# Altium footprint library mb1246b.brd.PcbLib: 73 footprints (part 2 of 6)
Each footprint in its own frame and in the unit in brackets; x right, y up, seen from the top. Pads: shape width x height; smd on the part's side, far side on the other; paste and mask are expansions set on the pad; w line width, h text height; cw(c..) or ccw(c..) is an arc to the next point about the centre after c.
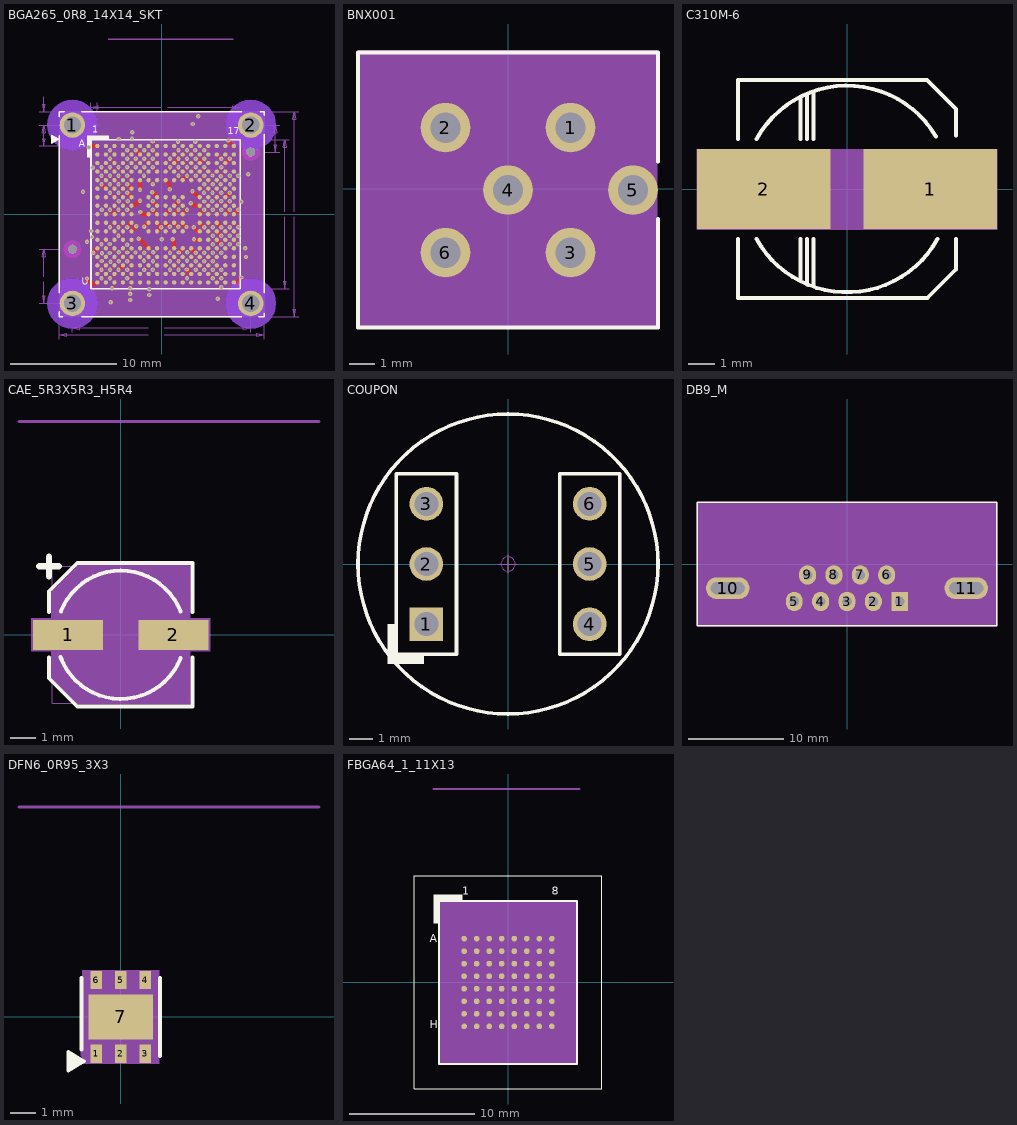
[diagram p1: the footprints below, top view; thin cyan lines are the x and y axes]

## BGA265_0R8_14X14_SKT [mil] "BGA265_0R8_14X14_SKT"
pads (271):
  round 94 hole 64: 1(-329.09,329.23) 2(329.37,329.23) 3(-329.09,-329.23) 4(329.37,-329.23)
  round 16 smd: A1(-236.97,251.97) A2(-205.47,251.97) A3(-173.98,251.97) A4(-142.48,251.97) A5(-110.98,251.97) A6(-79.49,251.97) A7(-47.99,251.97) A8(-16.5,251.97) A9(15,251.97) A10(46.5,251.97) A11(77.99,251.97) A12(109.49,251.97) A13(140.98,251.97) A14(172.48,251.97) A15(203.98,251.97) A16(235.47,251.97) A17(266.97,251.97) B1(-236.97,220.47) B2(-205.47,220.47) B3(-173.98,220.47) B4(-142.48,220.47) B5(-110.98,220.47) B6(-79.49,220.47) B7(-47.99,220.47) B8(-16.5,220.47) B9(15,220.47) B10(46.5,220.47) B11(77.99,220.47) B12(109.49,220.47) B13(140.98,220.47) B14(172.48,220.47) B15(203.98,220.47) B16(235.47,220.47) B17(266.97,220.47) C1(-236.97,188.98) C2(-205.47,188.98) C3(-173.98,188.98) C4(-142.48,188.98) C5(-110.98,188.98) C6(-79.49,188.98) C7(-47.99,188.98) C8(-16.5,188.98) C9(15,188.98) C10(46.5,188.98) C11(77.99,188.98) C12(109.49,188.98) C13(140.98,188.98) C14(172.48,188.98) C15(203.98,188.98) C16(235.47,188.98) C17(266.97,188.98) D1(-236.97,157.48) D2(-205.47,157.48) D3(-173.98,157.48) D4(-142.48,157.48) D5(-110.98,157.48) D6(-79.49,157.48) D7(-47.99,157.48) D8(-16.5,157.48) D9(15,157.48) D10(46.5,157.48) D11(77.99,157.48) D12(109.49,157.48) D13(140.98,157.48) D14(172.48,157.48) D15(203.98,157.48) D16(235.47,157.48) D17(266.97,157.48) E1(-236.97,125.98) E2(-205.47,125.98) E3(-173.98,125.98) E4(-142.48,125.98) E5(-110.98,125.98) E6(-79.49,125.98) E7(-47.99,125.98) E8(-16.5,125.98) E9(15,125.98) E10(46.5,125.98) E11(77.99,125.98) E12(109.49,125.98) E13(140.98,125.98) E14(172.48,125.98) E15(203.98,125.98) E16(235.47,125.98) E17(266.97,125.98) F1(-236.97,94.49) F2(-205.47,94.49) F3(-173.98,94.49) F4(-142.48,94.49) F5(-110.98,94.49) F13(140.98,94.49) F14(172.48,94.49) F15(203.98,94.49) F16(235.47,94.49) F17(266.97,94.49) G1(-236.97,62.99) G2(-205.47,62.99) G3(-173.98,62.99) G4(-142.48,62.99) G5(-110.98,62.99) G7(-47.99,62.99) G8(-16.5,62.99) G9(15,62.99) G10(46.5,62.99) G11(77.99,62.99) G13(140.98,62.99) G14(172.48,62.99) G15(203.98,62.99) G16(235.47,62.99) G17(266.97,62.99) H1(-236.97,31.5) H2(-205.47,31.5) H3(-173.98,31.5) H4(-142.48,31.5) H5(-110.98,31.5) H7(-47.99,31.5) H8(-16.5,31.5) H9(15,31.5) H10(46.5,31.5) H11(77.99,31.5) H13(140.98,31.5) H14(172.48,31.5) H15(203.98,31.5) H16(235.47,31.5) H17(266.97,31.5) J1(-236.97,0) J2(-205.47,0) J3(-173.98,0) J4(-142.48,0) J5(-110.98,0) J7(-47.99,0) J8(-16.5,0) J9(15,0) J10(46.5,0) J11(77.99,0) J13(140.98,0) J14(172.48,0) J15(203.98,0) J16(235.47,0) J17(266.97,0) K1(-236.97,-31.5) K2(-205.47,-31.5) K3(-173.98,-31.5) K4(-142.48,-31.5) K5(-110.98,-31.5) K7(-47.99,-31.5) K8(-16.5,-31.5) K9(15,-31.5) K10(46.5,-31.5) K11(77.99,-31.5) K13(140.98,-31.5) K14(172.48,-31.5) K15(203.98,-31.5) K16(235.47,-31.5) K17(266.97,-31.5) L1(-236.97,-62.99) L2(-205.47,-62.99) L3(-173.98,-62.99) L4(-142.48,-62.99) L5(-110.98,-62.99) L7(-47.99,-62.99) L8(-16.5,-62.99) L9(15,-62.99) L10(46.5,-62.99) L11(77.99,-62.99) L13(140.98,-62.99) L14(172.48,-62.99) L15(203.98,-62.99) L16(235.47,-62.99) L17(266.97,-62.99) M1(-236.97,-94.49) M2(-205.47,-94.49) M3(-173.98,-94.49) M4(-142.48,-94.49) M5(-110.98,-94.49) M13(140.98,-94.49) M14(172.48,-94.49) M15(203.98,-94.49) M16(235.47,-94.49) M17(266.97,-94.49) N1(-236.97,-125.98) N2(-205.47,-125.98) N3(-173.98,-125.98) N4(-142.48,-125.98) N5(-110.98,-125.98) N6(-79.49,-125.98) N7(-47.99,-125.98) N8(-16.5,-125.98) N9(15,-125.98) N10(46.5,-125.98) N11(77.99,-125.98) N12(109.49,-125.98) N13(140.98,-125.98) N14(172.48,-125.98) N15(203.98,-125.98) N16(235.47,-125.98) N17(266.97,-125.98) P1(-236.97,-157.48) P2(-205.47,-157.48) P3(-173.98,-157.48) P4(-142.48,-157.48) P5(-110.98,-157.48) P6(-79.49,-157.48) P7(-47.99,-157.48) P8(-16.5,-157.48) P9(15,-157.48) P10(46.5,-157.48) P11(77.99,-157.48) P12(109.49,-157.48) P13(140.98,-157.48) P14(172.48,-157.48) P15(203.98,-157.48) P16(235.47,-157.48) P17(266.97,-157.48) R1(-236.97,-188.98) R2(-205.47,-188.98) R3(-173.98,-188.98) R4(-142.48,-188.98) R5(-110.98,-188.98) R6(-79.49,-188.98) R7(-47.99,-188.98) R8(-16.5,-188.98) R9(15,-188.98) R10(46.5,-188.98) R11(77.99,-188.98) R12(109.49,-188.98) R13(140.98,-188.98) R14(172.48,-188.98) R15(203.98,-188.98) R16(235.47,-188.98) R17(266.97,-188.98) T1(-236.97,-220.47) T2(-205.47,-220.47) T3(-173.98,-220.47) T4(-142.48,-220.47) T5(-110.98,-220.47) T6(-79.49,-220.47) T7(-47.99,-220.47) T8(-16.5,-220.47) T9(15,-220.47) T10(46.5,-220.47) T11(77.99,-220.47) T12(109.49,-220.47) T13(140.98,-220.47) T14(172.48,-220.47) T15(203.98,-220.47) T16(235.47,-220.47) T17(266.97,-220.47) U1(-236.97,-251.97) U2(-205.47,-251.97) U3(-173.98,-251.97) U4(-142.48,-251.97) U5(-110.98,-251.97) U6(-79.49,-251.97) U7(-47.99,-251.97) U8(-16.5,-251.97) U9(15,-251.97) U10(46.5,-251.97) U11(77.99,-251.97) U12(109.49,-251.97) U13(140.98,-251.97) U14(172.48,-251.97) U15(203.98,-251.97) U16(235.47,-251.97) U17(266.97,-251.97)
  round 33.46 hole 33.46 unplated: ""(-329.09,-129.23) ""(329.37,229.23)
via 136,362 diameter 16 hole 8
via 115.5,333 diameter 16 hole 8
via -108,303 diameter 16 hole 8
via -109,279 diameter 16 hole 8
via -157.74,277.74 diameter 16 hole 8
via 246.01,272.51 diameter 16 hole 8
via -32.77,268.24 diameter 16 hole 8
via 61,268 diameter 16 hole 8
via 124,268 diameter 16 hole 8
via -269,247 diameter 16 hole 8
via -190.25,236.74 diameter 16 hole 8
via -127.25,236.74 diameter 16 hole 8
via -95.76,236.74 diameter 16 hole 8
via -64.26,236.74 diameter 16 hole 8
via -32.77,236.74 diameter 16 hole 8
via 62.77,236.74 diameter 16 hole 8
via 94.26,236.74 diameter 16 hole 8
via 157.25,236.74 diameter 16 hole 8
via 124,236 diameter 16 hole 8
via -190.25,205.25 diameter 16 hole 8
via -127.25,205.25 diameter 16 hole 8
via -95.76,205.25 diameter 16 hole 8
via -64.26,205.25 diameter 16 hole 8
via -32.77,205.25 diameter 16 hole 8
via 31.27,205.25 diameter 16 hole 8
via 62.77,205.25 diameter 16 hole 8
via 94.26,205.25 diameter 16 hole 8
via 125.76,205.25 diameter 16 hole 8
via 157.25,205.25 diameter 16 hole 8
via 251.74,205.25 diameter 16 hole 8
via 221,204.5 diameter 16 hole 8
via -221.74,173.75 diameter 16 hole 8
via -190.25,173.75 diameter 16 hole 8
via -158.75,173.75 diameter 16 hole 8
via -127.25,173.75 diameter 16 hole 8
via -95.76,173.75 diameter 16 hole 8
via -64.26,173.75 diameter 16 hole 8
via -32.77,173.75 diameter 16 hole 8
via 31.27,173.75 diameter 16 hole 8
via 62.77,173.75 diameter 16 hole 8
via 94.26,173.75 diameter 16 hole 8
via 125.76,173.75 diameter 16 hole 8
via 157.25,173.75 diameter 16 hole 8
via 220.25,173.75 diameter 16 hole 8
via -254,172 diameter 16 hole 8
via 320.17,148 diameter 16 hole 8
via 188,143 diameter 16 hole 8
via -65,142.5 diameter 16 hole 8
via -221.74,142.25 diameter 16 hole 8
via -190.25,142.25 diameter 16 hole 8
via -158.75,142.25 diameter 16 hole 8
via -127.25,142.25 diameter 16 hole 8
via 62.77,142.25 diameter 16 hole 8
via 94.26,142.25 diameter 16 hole 8
via 125.76,142.25 diameter 16 hole 8
via 157.25,142.25 diameter 16 hole 8
via 251.74,142.25 diameter 16 hole 8
via 283.24,142.25 diameter 16 hole 8
via 219,140 diameter 16 hole 8
via -33,111 diameter 16 hole 8
via 218.96,111 diameter 16 hole 8
via -221.74,110.76 diameter 16 hole 8
via -190.25,110.76 diameter 16 hole 8
via -158.75,110.76 diameter 16 hole 8
via -127.25,110.76 diameter 16 hole 8
via 157.25,110.76 diameter 16 hole 8
via 252.62,110.34 diameter 16 hole 8
via 188.75,110.25 diameter 16 hole 8
via 30,92 diameter 16 hole 8
via -79.49,90 diameter 16 hole 8
via 114.25,85 diameter 16 hole 8
via -290,83 diameter 16 hole 8
via -33.77,81.26 diameter 16 hole 8
via -190.25,79.26 diameter 16 hole 8
via -158.75,79.26 diameter 16 hole 8
via -127.25,79.26 diameter 16 hole 8
via 188,79.26 diameter 16 hole 8
via 220.25,79.26 diameter 16 hole 8
via 251.74,79.26 diameter 16 hole 8
via 157,79 diameter 16 hole 8
via -79.35,50 diameter 16 hole 8
via -125,48 diameter 16 hole 8
via 187.1,47.9 diameter 16 hole 8
via -32.77,47.77 diameter 16 hole 8
via 62.77,47.77 diameter 16 hole 8
via 220.25,47.77 diameter 16 hole 8
via 251.74,47.77 diameter 16 hole 8
via -157.85,47.63 diameter 16 hole 8
via 157.98,47 diameter 16 hole 8
via 294,46 diameter 16 hole 8
via 108,41 diameter 16 hole 8
via -221,17 diameter 16 hole 8
via -190.25,16.27 diameter 16 hole 8
via -158.75,16.27 diameter 16 hole 8
via -127.25,16.27 diameter 16 hole 8
via -32.77,16.27 diameter 16 hole 8
via 31.27,16.27 diameter 16 hole 8
via 62.77,16.27 diameter 16 hole 8
via 94.26,16.27 diameter 16 hole 8
via 157.25,16.27 diameter 16 hole 8
via 188.75,16.27 diameter 16 hole 8
via 220.25,16.27 diameter 16 hole 8
via 251.74,16.27 diameter 16 hole 8
via 283.24,16.27 diameter 16 hole 8
via -79,8 diameter 16 hole 8
via -93,-44 diameter 16 hole 8
via -64.26,-45.77 diameter 16 hole 8
via 30.27,-46.77 diameter 16 hole 8
via 61.77,-46.77 diameter 16 hole 8
via 92.08,-47.08 diameter 16 hole 8
via -190.25,-47.77 diameter 16 hole 8
via -158.75,-47.77 diameter 16 hole 8
via -127.25,-47.77 diameter 16 hole 8
via -1,-47.77 diameter 16 hole 8
via 157.25,-47.77 diameter 16 hole 8
via 188.75,-47.77 diameter 16 hole 8
via 220.25,-47.77 diameter 16 hole 8
via 251.74,-47.77 diameter 16 hole 8
via 283.24,-47.77 diameter 16 hole 8
via 119,-48 diameter 16 hole 8
via -260,-62 diameter 16 hole 8
via -158.75,-79.26 diameter 16 hole 8
via 188.75,-79.26 diameter 16 hole 8
via 220.25,-79.26 diameter 16 hole 8
via 251.74,-79.26 diameter 16 hole 8
via 283.24,-79.26 diameter 16 hole 8
via -257,-84 diameter 16 hole 8
via -84,-90 diameter 16 hole 8
via 1,-93 diameter 16 hole 8
via 41,-93 diameter 16 hole 8
via 120,-93 diameter 16 hole 8
via -275,-102 diameter 16 hole 8
via -191,-110 diameter 16 hole 8
via -221.74,-110.76 diameter 16 hole 8
via 188.75,-110.76 diameter 16 hole 8
via 220.25,-110.76 diameter 16 hole 8
via 251.74,-110.76 diameter 16 hole 8
via 283.24,-110.76 diameter 16 hole 8
via -127,-113 diameter 16 hole 8
via 309,-126 diameter 16 hole 8
via 95.26,-140.75 diameter 16 hole 8
via -158,-141 diameter 16 hole 8
via -31,-141 diameter 16 hole 8
via -96,-141.25 diameter 16 hole 8
via -127,-141.46 diameter 16 hole 8
via 63.81,-141.48 diameter 16 hole 8
via -251.63,-142 diameter 16 hole 8
via -64,-142 diameter 16 hole 8
via 31.27,-142.25 diameter 16 hole 8
via 125.76,-142.25 diameter 16 hole 8
via 157.25,-142.25 diameter 16 hole 8
via 188.75,-142.25 diameter 16 hole 8
via 220.25,-142.25 diameter 16 hole 8
via -191,-143 diameter 16 hole 8
via -220,-143.73 diameter 16 hole 8
via 312,-158 diameter 16 hole 8
via 94.26,-172.25 diameter 16 hole 8
via -64.64,-172.33 diameter 16 hole 8
via -221,-173 diameter 16 hole 8
via -127.25,-173.75 diameter 16 hole 8
via -31.73,-173.75 diameter 16 hole 8
via 31.27,-173.75 diameter 16 hole 8
via 62.77,-173.75 diameter 16 hole 8
via 125.76,-173.75 diameter 16 hole 8
via 157.25,-173.75 diameter 16 hole 8
via 188.75,-173.75 diameter 16 hole 8
via -158,-174 diameter 16 hole 8
via -188.66,-175.39 diameter 16 hole 8
via 93,-204 diameter 16 hole 8
via -221.74,-205.25 diameter 16 hole 8
via -190.25,-205.25 diameter 16 hole 8
via -158.75,-205.25 diameter 16 hole 8
via -127.25,-205.25 diameter 16 hole 8
via -64.26,-205.25 diameter 16 hole 8
via -32.77,-205.25 diameter 16 hole 8
via 31.27,-205.25 diameter 16 hole 8
via 62.77,-205.25 diameter 16 hole 8
via 125.76,-205.25 diameter 16 hole 8
via 157.25,-205.25 diameter 16 hole 8
via 188.75,-205.25 diameter 16 hole 8
via 220.25,-205.25 diameter 16 hole 8
via 294.02,-233.75 diameter 16 hole 8
via -221.74,-236.74 diameter 16 hole 8
via -190.25,-236.74 diameter 16 hole 8
via -127.25,-236.74 diameter 16 hole 8
via 94.26,-236.74 diameter 16 hole 8
via 188.75,-236.74 diameter 16 hole 8
via 220.25,-236.74 diameter 16 hole 8
via -275,-237.56 diameter 16 hole 8
via 221,-269.4 diameter 16 hole 8
via -182.93,-272.98 diameter 16 hole 8
via -116,-273 diameter 16 hole 8
via -45.5,-277 diameter 16 hole 8
via -116,-294 diameter 16 hole 8
via -45.5,-298 diameter 16 hole 8
via 207,-312 diameter 16 hole 8
via -116,-317 diameter 16 hole 8
via -188,-325 diameter 16 hole 8
Top Layer:
  lines w4: -236.97,-188.98 -236.97,-188.97 -221,-173 ; -221.74,-236.74 -205.47,-220.47 ; -221.74,-205.25 -205.47,-188.98 ; -221.74,-110.76 -205.47,-94.49 ; -221.74,142.25 -205.47,125.98 ; -221.74,173.75 -205.47,157.48 ; -191,-143 -173.98,-125.98 ; -190.25,-236.74 -173.98,-220.47 ; -190.25,-205.25 -173.98,-188.98 ; -190.25,-47.77 -173.98,-31.5 ; -190.25,79.26 -173.98,62.99 ; -190.25,110.76 -173.98,94.49 ; -190.25,142.25 -173.98,125.98 ; -190.25,173.75 -173.98,157.48 ; -190.25,205.25 -173.98,188.98 ; -182.93,-272.98 -173.98,-264.03 -173.98,-251.97 ; -173.98,31.5 -157.85,47.63 ; -158.75,-79.26 -142.48,-62.99 ; -158.75,-47.77 -142.48,-31.5 ; -158.75,16.27 -142.48,0 ; -158.75,79.26 -142.48,62.99 ; -158.75,110.76 -142.48,94.49 ; -158.75,142.25 -142.48,125.98 ; -158.75,173.75 -142.48,157.48 ; -158,-141 -142.48,-156.52 -142.48,-157.48 ; -142.48,-125.98 -127,-141.46 ; -142.48,31.5 -125.98,48 -125,48 ; -127.25,-236.74 -110.98,-220.47 ; -127.25,-205.25 -110.98,-188.98 ; -127.25,-173.75 -110.98,-157.48 ; -127.25,16.27 -110.98,0 ; -127.25,142.25 -110.98,125.98 ; -127.25,236.74 -110.98,220.47 ; -116,-273 -115,-273 -116,-272 -116,-256.99 -110.98,-251.97 ; -110.98,-125.98 -96,-140.96 -96,-141.25 ; -95.76,205.25 -79.49,188.98 ; -79.49,-157.48 -65,-171.97 -64.64,-171.97 -64.64,-172.33 ; -79.49,-125.98 -64,-141.47 -64,-142 ; -64.26,-205.25 -47.99,-188.98 ; -64.26,205.25 -47.99,188.98 ; -64.26,236.74 -47.99,220.47 ; -47.99,-157.48 -31.51,-141 -31,-141 ; -47.99,125.98 -33.01,111 ; -32.77,173.75 -16.5,157.48 ; -32.77,205.25 -16.5,188.98 ; -32.77,236.74 -16.5,220.47 ; -32.77,268.24 -16.5,251.97 ; 15,-188.98 31.27,-205.25 ; 15,-157.48 31.27,-173.75 ; 15,-125.98 31.27,-142.25 ; 15,157.48 31.27,173.75 ; 15,188.98 31.27,205.25 ; 46.5,-188.98 62.77,-205.25 ; 46.5,-157.48 62.77,-173.75 ; 46.5,125.98 62.77,142.25 ; 46.5,157.48 62.77,173.75 ; 46.5,220.47 62.77,236.74 ; 77.99,-220.47 94.26,-236.74 ; 77.99,157.48 94.26,173.75 ; 77.99,188.98 94.26,205.25 ; 77.99,220.47 94.26,236.74 ; 109.49,-188.98 125.76,-205.25 ; 109.49,-157.48 125.76,-173.75 ; 109.49,125.98 125.76,142.25 ; 109.49,157.48 125.76,173.75 ; 109.49,188.98 125.76,205.25 ; 109.49,220.47 124,234.98 124,236 ; 140.98,-188.98 157.25,-205.25 ; 140.98,-157.48 157.25,-173.75 ; 140.98,-125.98 157.25,-142.25 ; 140.98,94.49 157.25,110.76 ; 140.98,125.98 157.25,142.25 ; 140.98,157.48 157.25,173.75 ; 157,79 172.48,94.48 ; 157.98,47 172.48,32.5 172.48,31.5 ; 172.48,-220.47 188.75,-236.74 ; 172.48,-188.98 188.75,-205.25 ; 172.48,-157.48 188.75,-173.75 ; 172.48,-125.98 188.75,-142.25 ; 172.48,-94.49 188.75,-110.76 ; 172.48,-62.99 188.75,-79.26 ; 172.48,-31.5 188.75,-47.77 ; 172.48,0 188.75,16.27 ; 172.48,125.98 173.02,125.98 188.75,110.25 ; 172.48,157.48 186.96,143 188,143 ; 188,79.26 188,80 189.49,80 203.98,94.49 ; 203.98,-220.47 220.25,-236.74 ; 203.98,-188.98 220.25,-205.25 ; 203.98,-125.98 220.25,-142.25 ; 203.98,0 220.25,16.27 ; 203.98,31.5 220.25,47.77 ; 203.98,125.98 218.96,111 ; 203.98,157.48 220.25,173.75 ; 219,140 235.47,156.47 235.47,157.48 ; 235.47,-94.49 251.74,-110.76 ; 235.47,-62.99 251.74,-79.26 ; 235.47,-31.5 251.74,-47.77 ; 266.97,-94.49 283.24,-110.76 ; 266.97,-62.99 283.24,-79.26 ; 266.97,-31.5 283.24,-47.77 ; -33.01,111 -33,111 ; 172.48,94.48 172.48,94.49
  lines w5: 203.98,62.99 220.25,79.26 ; 203.98,220.47 204.53,220.47 221,204 221,204.5 ; 235.47,31.5 251.74,47.77
  lines w15: -275,-242.56 -261.32,-256.24 -260.76,-256.24 -258.71,-258.29 -243.29,-258.29 -236.97,-251.97 ; -269,247 -264.03,251.97 -236.97,251.97 ; -251.63,-142 -250,-140.37 -250,-139.01 -236.97,-125.98 ; -221.74,110.76 -205.47,94.49 ; -190.25,16.27 -173.98,0 ; -158.75,-205.25 -142.48,-188.98 ; -127.25,-47.77 -110.98,-31.5 ; -127.25,79.26 -110.98,62.99 ; -127.25,110.76 -110.98,94.49 ; -110.98,31.5 -99.03,31.5 -80.53,50 -79.35,50 ; -95.76,236.74 -79.49,220.47 ; -93,-44 -92,-44 -110.98,-62.98 ; -84,-90 -48.02,-125.98 ; -79.49,90 -79.49,125.98 ; -79,8 -77.99,8 -69.99,0 -47.99,0 ; -64.26,-45.77 -49.99,-31.5 -47.99,-31.5 ; -33.77,81.26 -31.26,81.26 -16.5,66.5 -16.5,62.99 ; -32.77,16.27 -16.5,0 ; -32.77,47.77 -16.5,31.5 ; -16.5,-62.5 -1.77,-47.77 -1,-47.77 -2.77,-46 -2.77,-45.23 -16.5,-31.5 ; 15,-31.5 30.27,-46.77 ; 15,0 31.27,16.27 ; 15,125.98 29,111.98 29,93 30,92 ; 41,-93 46.5,-98.5 46.5,-125.98 ; 46.5,-31.5 61.77,-46.77 ; 46.5,0 62.77,16.27 ; 46.5,31.5 62.77,47.77 ; 46.5,188.98 62.77,205.25 ; 63.81,-141.48 63.81,-141.19 77.99,-127.01 77.99,-125.98 ; 77.99,-31.5 77.99,-33.99 91.08,-47.08 92.08,-47.08 ; 77.99,0 94.26,16.27 ; 77.99,125.98 77.99,126.98 93.26,142.25 94.26,142.25 ; 108,41 117.5,31.5 140.98,31.5 ; 109.49,-220.47 93.02,-204 ; 109.49,-125.98 125.76,-142.25 ; 114.25,85 114.25,84.63 135.89,62.99 140.98,62.99 ; 119,-48 133.99,-62.99 140.98,-62.99 ; 120,-93 121.49,-94.49 140.98,-94.49 ; 140.98,-31.5 157.25,-47.77 ; 140.98,0 157.25,16.27 ; 140.98,188.98 157.25,205.25 ; 203.98,-94.49 220.25,-110.76 ; 203.98,-62.99 220.25,-79.26 ; 203.98,-31.5 220.25,-47.77 ; 235.47,0 251.74,16.27 ; 235.47,62.99 251.74,79.26 ; 235.47,188.98 251.74,205.25 ; 246.01,272.51 246.52,272 246.94,272 266.97,251.97 ; 266.97,-251.97 280.03,-251.97 294.02,-237.98 294.02,-233.75 ; 266.97,0 283.24,16.27 ; -110.98,-62.99 -110.98,-62.98 ; -48.02,-125.98 -47.99,-125.98 ; 93,-204 93.02,-204
Bottom Layer keep-out:
  region: -329.09,-236.26 -347.23,-238.05 -364.67,-243.34 -380.75,-251.93 -394.83,-263.49 -406.4,-277.58 -414.99,-293.65 -420.28,-311.09 -422.06,-329.23 -420.28,-347.37 -414.99,-364.81 -409.26,-375.52 -406.4,-380.88 -394.83,-394.97 -380.75,-406.53 -364.67,-415.13 -347.23,-420.42 -329.09,-422.2 -310.96,-420.42 -293.52,-415.13 -277.44,-406.53 -263.35,-394.97 -251.79,-380.88 -248.92,-375.52 -243.2,-364.81 -237.91,-347.37 -236.12,-329.23 -237.91,-311.09 -243.2,-293.65 -251.79,-277.58 -263.35,-263.49 -277.44,-251.93 -293.52,-243.34 -310.96,-238.05
  region: 329.37,-236.26 311.23,-238.05 293.79,-243.34 277.72,-251.93 263.63,-263.49 252.07,-277.58 243.48,-293.65 238.19,-311.09 236.4,-329.23 238.19,-347.37 243.48,-364.81 249.2,-375.52 252.07,-380.88 263.63,-394.97 277.72,-406.53 293.79,-415.13 311.23,-420.42 329.37,-422.2 347.51,-420.42 364.95,-415.13 381.02,-406.53 395.11,-394.97 406.67,-380.88 409.54,-375.52 415.26,-364.81 420.55,-347.37 422.34,-329.23 420.55,-311.09 415.26,-293.65 406.67,-277.58 395.11,-263.49 381.02,-251.93 364.95,-243.34 347.51,-238.05
  region: 329.37,422.2 311.23,420.41 293.79,415.12 277.72,406.53 263.63,394.97 252.07,380.88 243.48,364.81 238.19,347.37 236.4,329.23 238.19,311.1 243.48,293.66 249.2,282.95 252.07,277.58 263.63,263.5 277.72,251.93 293.79,243.34 311.23,238.05 329.37,236.27 347.51,238.05 364.95,243.34 381.02,251.93 395.11,263.5 406.67,277.58 409.54,282.95 415.26,293.66 420.55,311.1 422.34,329.23 420.55,347.37 415.26,364.81 406.67,380.88 395.11,394.97 381.02,406.53 364.95,415.12 347.51,420.41
  region: -329.09,422.21 -347.23,420.42 -364.67,415.13 -380.75,406.54 -394.84,394.98 -406.4,380.89 -414.99,364.81 -420.28,347.37 -422.07,329.23 -420.28,311.09 -414.99,293.65 -409.27,282.94 -406.4,277.58 -394.84,263.49 -380.75,251.93 -364.67,243.33 -347.23,238.04 -329.09,236.26 -310.96,238.04 -293.51,243.33 -277.44,251.93 -263.35,263.49 -251.79,277.58 -248.92,282.94 -243.2,293.65 -237.91,311.09 -236.12,329.23 -237.91,347.37 -243.2,364.81 -251.79,380.89 -263.35,394.98 -277.44,406.54 -293.51,415.13 -310.96,420.42
Top Overlay:
  dashed: -195,275 -195,290 -275,290 -275,210 -260,210 -260,275
  lines w5: -391.5,278 -391.5,273 -385.5,277 -394.5,283 -394.5,272 -397.5,270 -397.5,285 -401.5,287 -401.5,267 -405.5,267 -405.5,262 ; -405.5,262 -380.5,277 -405.5,292 -405.5,262
  lines w6: -378.31,-360 -378.31,-378.44 -365,-378.44 ; -378.31,-290 -378.31,290 ; -378.31,360 -378.31,378.44 -360,378.44 ; -295,-378.44 295,-378.44 ; -295,378.44 295,378.44 ; 360,-378.44 378.58,-378.44 378.58,-365 ; 365,378.44 378.58,378.44 378.58,365 ; 378.58,-290 378.58,295 ; -260.59,-275.59 -260.59,275.59 290.59,275.59 290.59,-275.59 -260.59,-275.59
  text "17" at 245,295 h25
  text "1" at -255,300 h25
  text "U" at -295,-260 h25
  text "A" at -305,250 h25
  text ".Designator" at 432,-247 h35
Top Courtyard:
  dashed: -260,-275 290,-275 290,275 -260,275
Top 3D Body:
  region: -380,-380 380,-380 380,380 -380,380
Top Component Center:
  circle w1: c15,0 r11.81
  lines w1: -0.75,0 30.75,0 ; 15,-15.75 15,15.75
Multi-Layer keep-out:
  region: 329.37,261 321.15,259.92 313.49,256.75 306.91,251.7 301.86,245.12 298.68,237.45 297.6,229.23 298.68,221.01 301.86,213.35 306.91,206.77 313.49,201.72 321.15,198.55 329.37,197.46 337.59,198.55 345.25,201.72 351.83,206.77 356.88,213.35 360.06,221.01 361.14,229.23 360.06,237.45 356.88,245.12 351.83,251.7 345.25,256.75 337.59,259.92
  region: -329.09,-97.47 -337.32,-98.55 -344.98,-101.72 -351.56,-106.77 -356.6,-113.35 -359.78,-121.01 -360.86,-129.23 -359.78,-137.45 -356.6,-145.11 -351.56,-151.69 -344.98,-156.74 -337.32,-159.91 -329.09,-161 -320.87,-159.91 -313.21,-156.74 -306.63,-151.69 -301.59,-145.11 -298.41,-137.45 -297.33,-129.23 -298.41,-121.01 -301.59,-113.35 -306.63,-106.77 -313.21,-101.72 -320.87,-98.55
Top Assembly:
  dashed: -260,275 -55,275 -260,70
  lines w5: -378.31,-378.44 -378.31,378.44 378.58,378.44 378.58,-378.44 -378.31,-378.44 ; -260.59,-275.59 -260.59,275.59 290.59,275.59 290.59,-275.59 -260.59,-275.59
  text "STM32H7" at 25,-639 h30
Mechanical42:
  text "M1" at -236.97,-100.79 h7.87
  text "L1" at -236.97,-69.29 h7.87
  text "E6" at -79.49,119.68 h7.87
  text "H5" at -110.98,25.2 h7.87
  text "G5" at -110.98,56.69 h7.87
  text "F5" at -110.98,88.19 h7.87
  text "M5" at -110.98,-100.79 h7.87
  text "L5" at -110.98,-69.29 h7.87
  text "K5" at -110.98,-37.8 h7.87
  text "N7" at -47.99,-132.28 h7.87
  text "J13" at 140.98,-9.44 h7.87
  text "H13" at 140.98,22.06 h7.87
  text "G13" at 140.98,53.55 h7.87
  text "E9" at 15,119.68 h7.87
  text "E11" at 77.99,116.54 h7.87
  text "L13" at 140.98,-72.43 h7.87
  text "K13" at 140.98,-40.94 h7.87
  text "N12" at 109.49,-135.42 h7.87
  text "N11" at 77.99,-135.42 h7.87
  text "N10" at 46.5,-135.42 h7.87
  text "N8" at -16.5,-132.28 h7.87
  text "M13" at 140.98,-103.93 h7.87
  text "P17" at 266.97,-166.92 h7.87
  text "E8" at -16.5,119.68 h7.87
  text "U3" at -173.98,-258.27 h7.87
  text "L3" at -173.98,-69.29 h7.87
  text "K1" at -236.97,-37.8 h7.87
  text "E3" at -173.98,119.68 h7.87
  text "B14" at 172.48,211.03 h7.87
  text "A14" at 172.48,242.53 h7.87
  text "C15" at 203.98,179.54 h7.87
  text "B7" at -47.99,214.17 h7.87
  text "T3" at -173.98,-226.77 h7.87
  text "P3" at -173.98,-163.78 h7.87
  text "L2" at -205.47,-69.29 h7.87
  text "E17" at 266.97,116.54 h7.87
  text "D14" at 172.48,148.04 h7.87
  text "U15" at 203.98,-261.41 h7.87
  text "T15" at 203.98,-229.91 h7.87
  text "D7" at -47.99,151.18 h7.87
  text "A8" at -16.5,245.67 h7.87
  text "B8" at -16.5,214.17 h7.87
  text "C8" at -16.5,182.68 h7.87
  text "H17" at 266.97,22.06 h7.87
  text "B10" at 46.5,211.03 h7.87
  text "M14" at 172.48,-103.93 h7.87
  text "N13" at 140.98,-135.42 h7.87
  text "N14" at 172.48,-135.42 h7.87
  text "R12" at 109.49,-198.42 h7.87
  text "U7" at -47.99,-258.27 h7.87
  text "U6" at -79.49,-258.27 h7.87
  text "T6" at -79.49,-226.77 h7.87
  text "P6" at -79.49,-163.78 h7.87
  text "N6" at -79.49,-132.28 h7.87
  text "P5" at -110.98,-163.78 h7.87
  text "H2" at -205.47,25.2 h7.87
  text "H1" at -236.97,25.2 h7.87
  text "E4" at -142.48,119.68 h7.87
  text "A3" at -173.98,245.67 h7.87
  text "A4" at -142.48,245.67 h7.87
  text "U13" at 140.98,-261.41 h7.87
  text "J1" at -236.97,-6.3 h7.87
  text "J2" at -205.47,-6.3 h7.87
  text "A9" at 15,245.67 h7.87
  text "F16" at 235.47,85.05 h7.87
  text "B4" at -142.48,214.17 h7.87
  text "C4" at -142.48,182.68 h7.87
  text "C11" at 77.99,179.54 h7.87
  text "A11" at 77.99,242.53 h7.87
  text "A12" at 109.49,242.53 h7.87
  text "C1" at -236.97,182.68 h7.87
  text "C2" at -205.47,182.68 h7.87
  text "U4" at -142.48,-258.27 h7.87
  text "T4" at -142.48,-226.77 h7.87
  text "M4" at -142.48,-100.79 h7.87
  text "M3" at -173.98,-100.79 h7.87
  text "M2" at -205.47,-100.79 h7.87
  text "D4" at -142.48,151.18 h7.87
  text "C5" at -110.98,182.68 h7.87
  text "B5" at -110.98,214.17 h7.87
  text "C6" at -79.49,182.68 h7.87
  text "E16" at 235.47,116.54 h7.87
  text "D15" at 203.98,148.04 h7.87
  text "E15" at 203.98,116.54 h7.87
  text "R5" at -110.98,-195.28 h7.87
  text "N3" at -173.98,-132.28 h7.87
  text "N4" at -142.48,-132.28 h7.87
  text "N5" at -110.98,-132.28 h7.87
  text "A5" at -110.98,245.67 h7.87
  text "U14" at 172.48,-261.41 h7.87
  text "T14" at 172.48,-229.91 h7.87
  text "P12" at 109.49,-166.92 h7.87
  text "P11" at 77.99,-166.92 h7.87
  text "T5" at -110.98,-226.77 h7.87
  text "U5" at -110.98,-258.27 h7.87
  text "U2" at -205.47,-258.27 h7.87
  text "A1" at -236.97,245.67 h7.87
  text "B2" at -205.47,214.17 h7.87
  text "P1" at -236.97,-163.78 h7.87
  text "N1" at -236.97,-132.28 h7.87
  text "U1" at -236.97,-258.27 h7.87
  text "B6" at -79.49,214.17 h7.87
  text "H8" at -16.5,25.2 h7.87
  text "J3" at -173.98,-6.3 h7.87
  text "J8" at -16.5,-6.3 h7.87
  text "G8" at -16.5,56.69 h7.87
  text "G7" at -47.99,56.69 h7.87
  text "H7" at -47.99,25.2 h7.87
  text "J7" at -47.99,-6.3 h7.87
  text "R8" at -16.5,-195.28 h7.87
  text "R4" at -142.48,-195.28 h7.87
  text "K7" at -47.99,-37.8 h7.87
  text "L7" at -47.99,-69.29 h7.87
  text "C13" at 140.98,179.54 h7.87
  text "C10" at 46.5,179.54 h7.87
  text "G10" at 46.5,53.55 h7.87
  text "G9" at 15,56.69 h7.87
  text "G11" at 77.99,53.55 h7.87
  text "J9" at 15,-6.3 h7.87
  text "H9" at 15,25.2 h7.87
  text "J11" at 77.99,-9.44 h7.87
  text "H11" at 77.99,22.06 h7.87
  text "J10" at 46.5,-9.44 h7.87
  text "H10" at 46.5,22.06 h7.87
  text "T12" at 109.49,-229.91 h7.87
  text "L11" at 77.99,-72.43 h7.87
  text "K11" at 77.99,-40.94 h7.87
  text "K10" at 46.5,-40.94 h7.87
  text "L10" at 46.5,-72.43 h7.87
  text "K9" at 15,-37.8 h7.87
  text "L9" at 15,-69.29 h7.87
  text "L8" at -16.5,-69.29 h7.87
  text "K8" at -16.5,-37.8 h7.87
  text "A17" at 266.97,242.53 h7.87
  text "J17" at 266.97,-9.44 h7.87
  text "J16" at 235.47,-9.44 h7.87
  text "G16" at 235.47,53.55 h7.87
  text "N16" at 235.47,-135.42 h7.87
  text "M15" at 203.98,-103.93 h7.87
  text "L15" at 203.98,-72.43 h7.87
  text "K15" at 203.98,-40.94 h7.87
  text "U17" at 266.97,-261.41 h7.87
  text "F2" at -205.47,88.19 h7.87
  text "C16" at 235.47,179.54 h7.87
  text "D5" at -110.98,151.18 h7.87
  text "N17" at 266.97,-135.42 h7.87
  text "R16" at 235.47,-198.42 h7.87
  text "K4" at -142.48,-37.8 h7.87
  text "B15" at 203.98,211.03 h7.87
  text "F15" at 203.98,85.05 h7.87
  text "D2" at -205.47,151.18 h7.87
  text "C3" at -173.98,182.68 h7.87
  text "L4" at -142.48,-69.29 h7.87
  text "G2" at -205.47,56.69 h7.87
  text "T1" at -236.97,-226.77 h7.87
  text "T2" at -205.47,-226.77 h7.87
  text "R1" at -236.97,-195.28 h7.87
  text "R2" at -205.47,-195.28 h7.87
  text "C12" at 109.49,179.54 h7.87
  text "D12" at 109.49,148.04 h7.87
  text "E13" at 140.98,116.54 h7.87
  text "F14" at 172.48,85.05 h7.87
  text "E14" at 172.48,116.54 h7.87
  text "A13" at 140.98,242.53 h7.87
  text "B13" at 140.98,211.03 h7.87
  text "F13" at 140.98,85.05 h7.87
  text "F4" at -142.48,88.19 h7.87
  text "B11" at 77.99,211.03 h7.87
  text "B12" at 109.49,211.03 h7.87
  text "R3" at -173.98,-195.28 h7.87
  text "L16" at 235.47,-72.43 h7.87
  text "P8" at -16.5,-163.78 h7.87
  text "U9" at 15,-258.27 h7.87
  text "F17" at 266.97,85.05 h7.87
  text "2" at 328.6,318.7 h7.87
  text "4" at 328.6,-339.76 h7.87
  text "1" at -329.86,318.7 h7.87
  text "3" at -329.86,-339.76 h7.87
  text "B17" at 266.97,211.03 h7.87
  text "D16" at 235.47,148.04 h7.87
  text "G15" at 203.98,53.55 h7.87
  text "R15" at 203.98,-198.42 h7.87
  text "F1" at -236.97,88.19 h7.87
  text "B1" at -236.97,214.17 h7.87
  text "E1" at -236.97,119.68 h7.87
  text "A6" at -79.49,245.67 h7.87
  text "U12" at 109.49,-261.41 h7.87
  text "C17" at 266.97,179.54 h7.87
  text "U11" at 77.99,-261.41 h7.87
  text "A7" at -47.99,245.67 h7.87
  text "G17" at 266.97,53.55 h7.87
  text "D17" at 266.97,148.04 h7.87
  text "K3" at -173.98,-37.8 h7.87
  text "K2" at -205.47,-37.8 h7.87
  text "D8" at -16.5,151.18 h7.87
  text "R6" at -79.49,-195.28 h7.87
  text "D9" at 15,151.18 h7.87
  text "C9" at 15,182.68 h7.87
  text "B9" at 15,214.17 h7.87
  text "T8" at -16.5,-226.77 h7.87
  text "U8" at -16.5,-258.27 h7.87
  text "T11" at 77.99,-229.91 h7.87
  text "P9" at 15,-163.78 h7.87
  text "T9" at 15,-226.77 h7.87
  text "P10" at 46.5,-166.92 h7.87
  text "R11" at 77.99,-198.42 h7.87
  text "T10" at 46.5,-229.91 h7.87
  text "T13" at 140.98,-229.91 h7.87
  text "R13" at 140.98,-198.42 h7.87
  text "U16" at 235.47,-261.41 h7.87
  text "R14" at 172.48,-198.42 h7.87
  text "T16" at 235.47,-229.91 h7.87
  text "T17" at 266.97,-229.91 h7.87
  text "P16" at 235.47,-166.92 h7.87
  text "D1" at -236.97,151.18 h7.87
  text "J4" at -142.48,-6.3 h7.87
  text "H3" at -173.98,25.2 h7.87
  text "J5" at -110.98,-6.3 h7.87
  text "G1" at -236.97,56.69 h7.87
  text "H4" at -142.48,25.2 h7.87
  text "G4" at -142.48,56.69 h7.87
  text "G3" at -173.98,56.69 h7.87
  text "N2" at -205.47,-132.28 h7.87
  text "E5" at -110.98,119.68 h7.87
  text "P2" at -205.47,-163.78 h7.87
  text "D3" at -173.98,151.18 h7.87
  text "B3" at -173.98,214.17 h7.87
  text "E2" at -205.47,119.68 h7.87
  text "A2" at -205.47,245.67 h7.87
  text "A10" at 46.5,242.53 h7.87
  text "D6" at -79.49,151.18 h7.87
  text "F3" at -173.98,88.19 h7.87
  text "E7" at -47.99,119.68 h7.87
  text "P4" at -142.48,-163.78 h7.87
  text "R7" at -47.99,-195.28 h7.87
  text "P7" at -47.99,-163.78 h7.87
  text "T7" at -47.99,-226.77 h7.87
  text "A16" at 235.47,242.53 h7.87
  text "H15" at 203.98,22.06 h7.87
  text "H14" at 172.48,22.06 h7.87
  text "E12" at 109.49,116.54 h7.87
  text "A15" at 203.98,242.53 h7.87
  text "D13" at 140.98,148.04 h7.87
  text "B16" at 235.47,211.03 h7.87
  text "C14" at 172.48,179.54 h7.87
  text "P15" at 203.98,-166.92 h7.87
  text "H16" at 235.47,22.06 h7.87
  text "R17" at 266.97,-198.42 h7.87
  text "G14" at 172.48,53.55 h7.87
  text "P14" at 172.48,-166.92 h7.87
  text "P13" at 140.98,-166.92 h7.87
  text "U10" at 46.5,-261.41 h7.87
  text "R10" at 46.5,-198.42 h7.87
  text "R9" at 15,-195.28 h7.87
  text "N9" at 15,-132.28 h7.87
  text "L17" at 266.97,-72.43 h7.87
  text "M17" at 266.97,-103.93 h7.87
  text "M16" at 235.47,-103.93 h7.87
  text "K17" at 266.97,-40.94 h7.87
  text "K16" at 235.47,-40.94 h7.87
  text "D11" at 77.99,148.04 h7.87
  text "C7" at -47.99,182.68 h7.87
  text "J15" at 203.98,-9.44 h7.87
  text "J14" at 172.48,-9.44 h7.87
  text "D10" at 46.5,148.04 h7.87
  text "E10" at 46.5,116.54 h7.87
  text "K14" at 172.48,-40.94 h7.87
  text "L14" at 172.48,-72.43 h7.87
  text "N15" at 203.98,-135.42 h7.87
Mechanical44:
  lines w5: -196,647 264,647
  text "Remark: D031-020A1" at -166,447 h25
  text "Rev   : A1" at -166,487 h25
  text "Date  : 2015-12-10" at -166,527 h25
  text "Creat : Yuki" at -166,567 h25
  text "Ref PN: ****" at -166,607 h25
  text "Sofer Lib Information" at -196,657 h25
Mechanical45:
  text "BGA265_0R8_14X14_SKT" at 35,-805 h30
Mechanical46:
  text "NO" at 15,-28 h35
Mechanical47:
  lines w1: -450.75,-329.23 -336.97,-329.23 ; -450.75,-129.23 -336.97,-129.23 ; -450.75,251.97 -244.84,251.97 ; -450.75,378.44 -386.18,378.44 ; -435,-249.84 -435,-329.23 ; -435,-230.16 -435,-129.23 ; -435,259.84 -435,251.97 ; -435,279.84 -435,329.23 ; -435,433.56 -435,378.44 ; -378.31,-460.75 -378.31,-386.32 ; -329.09,-435.75 -329.09,-337.11 ; -260.59,283.46 -260.59,410.75 ; -236.97,345.75 -236.97,259.84 -236.97,410.75 ; -103.11,300 -47.99,300 ; -49.53,-445 -378.31,-445 ; -49.53,-420 -329.09,-420 ; -47.99,259.84 -47.99,315.75 ; -16.5,259.84 -16.5,315.75 ; -16,330 -236.97,330 ; -3.78,395 -260.59,395 ; 5,300 -16.5,300 ; 9.53,-445 378.58,-445 ; 9.53,-420 329.37,-420 ; 23.78,395 290.59,395 ; 56,330 266.97,330 ; 266.97,259.84 266.97,345.75 ; 274.84,125.98 335.75,125.98 ; 274.84,157.48 335.75,157.48 ; 290.59,283.46 290.59,410.75 ; 298.46,-275.59 470.75,-275.59 ; 298.46,275.59 470.75,275.59 ; 320,85 320,125.98 ; 320,212.6 320,157.48 ; 329.37,-435.75 329.37,-337.11 ; 337.24,229.23 435.75,229.23 ; 337.24,329.23 435.75,329.23 ; 378.58,-460.75 378.58,-386.32 ; 386.46,-378.44 505.75,-378.44 ; 386.46,378.44 505.75,378.44 ; 420,325.16 420,329.23 ; 455,-9.84 455,-275.59 ; 455,9.84 455,275.59 ; 490,-9.84 490,-378.44 ; 490,9.84 490,378.44 ; -440.91,301.67 -429.09,301.67 ; -440.91,301.67 -435,329.23 ; -440.91,301.67 -429.09,301.67 ; -440.91,301.67 -435,329.23 ; -435,-329.23 -429.09,-301.67 -440.91,-301.67 -435,-329.23 ; -435,-129.23 -440.91,-156.79 -429.09,-156.79 -435,-129.23 ; -435,251.97 -435,329.23 ; -435,251.97 -429.09,279.53 -440.91,279.53 -435,251.97 ; -435,329.23 -429.09,301.67 ; -435,329.23 -429.09,301.67 ; -435,378.44 -429.09,406 -440.91,406 -435,378.44 ; -378.31,-445 -350.75,-450.91 -350.75,-439.09 -378.31,-445 ; -329.09,-420 -301.54,-425.91 -301.54,-414.09 -329.09,-420 ; -260.59,395 -233.03,389.09 -233.03,400.91 -260.59,395 ; -236.97,330 -209.41,324.09 -209.41,335.91 -236.97,330 ; -47.99,300 -75.55,305.91 -75.55,294.09 -47.99,300 ; -16.5,300 11.06,294.09 11.06,305.91 -16.5,300 ; 266.97,330 239.41,335.91 239.41,324.09 266.97,330 ; 290.59,395 263.03,400.91 263.03,389.09 290.59,395 ; 320,125.98 314.09,98.43 325.91,98.43 320,125.98 ; 320,157.48 325.91,185.04 314.09,185.04 320,157.48 ; 329.37,-420 301.81,-414.09 301.81,-425.91 329.37,-420 ; 378.58,-445 351.02,-439.09 351.02,-450.91 378.58,-445 ; 420,229.23 425.91,256.79 414.09,256.79 420,229.23 ; 420,229.23 420,329.23 ; 420,329.23 414.09,301.67 425.91,301.67 420,329.23 ; 455,-275.59 460.91,-248.03 449.09,-248.03 455,-275.59 ; 455,275.59 449.09,248.03 460.91,248.03 455,275.59 ; 490,-378.44 495.91,-350.89 484.09,-350.89 490,-378.44 ; 490,378.44 484.09,350.89 495.91,350.89 490,378.44 ; -450.75,329.23 -336.97,329.23 -450.75,329.23
  text "19.225" at -43.62,-448.94 h7.87
  text "16.725" at -43.62,-423.94 h7.87
  text "5.08" at -450.75,-243.94 h7.87
  text "1.9625" at -450,265 h7.87
  text "1.25" at -435,340 h7.87
  text "2.54" at 404.25,331.06 h7.87
  text "19.225" at 466.38,-3.94 h7.87
  text "14" at 447.13,-3.94 h7.87
  text "14" at 2.13,391.06 h7.87
  text "0.8" at 302,57 h7.87
  text "12.8" at -4,322 h7.87
  text "0.8" at 17,292 h7.87
3D body: height 150, standoff 0, extent -380,-380 380,380

## BNX001 [mil] "BNX001"
pads (6):
  round 78 hole 48: 1(98.43,95.93) 2(-98.43,95.93) 3(98.43,-100.93) 4(0,-2.5) 5(196.85,-2.5) 6(-98.43,-100.93)
Top Overlay:
  lines w5.98: 236.22,-47.5 236.22,-219.04 -236.22,-219.04 -236.22,214.04 236.22,214.04 236.22,42.5
  text ".Designator" at 145,232.5 h35
Top 3D Body:
  region: -235,-217.5 235,-217.5 235,217.5 -235,217.5
Top Component Center:
  circle w1: c0,-2.5 r11.81
  lines w1: -15.75,-2.5 15.75,-2.5 ; 0,-18.25 0,13.25
Top Assembly:
  lines w1: -235,-217.5 -235,217.5 235,217.5 235,-217.5 -235,-217.5
Mechanical42:
  text "3" at 92.04,-100.93 h15.98
  text "6" at -104.82,-100.93 h15.98
  text "4" at -6.39,-2.5 h15.98
  text "5" at 190.46,-2.5 h15.98
  text "1" at 92.04,95.93 h15.98
  text "2" at -104.82,95.93 h15.98
3D body: height 150, standoff 0, extent -235,-217.5 235,217.5

## C310M-6 [mil] "C310M-6"
pads (2):
  rect 200x120 smd: 1(125,0) 2(-125,0)
Top Overlay:
  lines w6: -163.39,-75 -163.39,-163.39 110,-163.39 120.39,-163.39 163.39,-120.39 163.39,-96 ; -163.39,75 -163.39,163.39 115,163.39 120,163.39 163.39,120 163.39,80 ; -135.49,-75.27 ccw(c0,0.01) 135.49,-75.27 ; -135.49,75.27 cw(c0,0) 133.34,79.02 ; -70,-138 -70,-75 ; -70,75 -70,137 ; -60,-143 -60,-75 ; -60,75 -60,140 ; -50,-145 -50,-75 ; -50,75 -50,144 ; 163.39,-115 163.39,-75
Top 3D Body:
  region: -225,-60 225,-60 225,60 -225,60
Top Assembly:
  lines w1: -225,-60 -225,60 225,60 225,-60 -225,-60
  text ".Designator" at -225,224.39 h60
Mechanical42:
  text "1" at 125,-6.4 h16
  text "2" at -125,-6.4 h16
3D body: height 150, standoff 0, extent -225,-60 225,60

## CAE_5R3X5R3_H5R4 [mil] "CAE_5R3X5R3_H5R4"
pads (2):
  rect 107x46 smd: 1(-80.71,0) 2(80.71,0)
Top Overlay:
  lines w6: -110,-35 -110,-66.69 -66.69,-110 110,-110 110,-35 ; -110,35 -110,66.69 -66.69,110 110,110 110,35 ; -92.36,-34.03 ccw(c0,0) 91.73,-35.67 ; -91.73,35.67 cw(c0,0) 91.73,35.67
  lines w9.84: -125,105 -95,105 ; -110,90 -110,120
  text ".Designator" at -60,130 h35
Top Courtyard:
  dashed: -65.67,-104.33 105,-104.33 105,-25 137.21,-25 137.21,25 105,25 105,104.33 -65,104.33 -104.33,65 -105,65 -105,25 -137.21,25 -137.21,-25 -105,-25 -105,-65
Top 3D Body:
  region: -65.67,-104.33 105,-104.33 105,-25 137.21,-25 137.21,25 105,25 105,104.33 -65,104.33 -104.33,65 -105,65 -105,25 -137.21,25 -137.21,-25 -105,-25 -105,-65
  text "H=5.4mm" at -83,-95 h35
Top Component Center:
  circle w1: c0,0 r11.81
  lines w1: -15.75,0 15.75,0 ; 0,-15.75 0,15.75
Top Assembly:
  circle w5: c0,0 r98.43
  dashed: 98.61,0 98.61,6.69 96.8,19.95 93.22,32.84 87.93,45.14 81.03,56.6 72.64,67.03 62.93,76.23 52.05,84.03 46.14,87.16 46.14,-87.15 52.05,-84.02 62.92,-76.22 72.64,-67.02 81.03,-56.59 87.93,-45.13 93.22,-32.84 96.8,-19.95 98.61,-6.69
  lines w5: -104.33,-64.96 -64.96,-104.33 104.33,-104.33 104.33,104.33 -64.96,104.33 -104.33,64.96 -104.33,-64.96
  text "47uF" at -43,-170 h30
Mechanical42:
  text "1" at -87.11,0 h16
  text "2" at 74.31,0 h16
Mechanical44:
  lines w5: -156,327 304,327
  text "Remark: ***" at -126,127 h25
  text "Rev   : B1" at -126,167 h25
  text "Date  : 2007-11-30" at -126,207 h25
  text "Creat : Sofer Tech" at -126,247 h25
  text "Ref PN: ***" at -126,287 h25
  text "Sofer Lib Information" at -156,337 h25
Mechanical45:
  text "CAE_5R3X5R3_H5R4" at -172,-165 h30
Mechanical48:
  lines w1: -105,-105 -105,105 105,105 105,-105 -105,-105
Mechanical49:
  text "Approved" at -112,0 h35
3D body: height 150, standoff 0, extent -137.21,-104.33 137.21,104.33

## COUPON [mil] "COUPON"
pads (6):
  rect 56x56 / inner round 56 / far side rect 56x56 hole 40: 1(-135.65,-100)
  round 56 hole 40: 2(-135.65,0) 3(-135.65,100) 4(135.65,-100) 5(135.65,0) 6(135.65,100)
Top Overlay:
  dashed: -140.05,-150.7 -140.05,-165.7 -200.05,-165.7 -200.05,-100.4 -185.05,-100.4 -185.05,-150.7
  lines w6: -249.25,0 cw(c-0.05,0) 249.15,0 cw(c-0.05,0) -249.25,0 ; -185.65,-150 -85.65,-150 -85.65,150 -185.65,150 -185.65,-150 ; 85.65,-150 185.65,-150 185.65,150 85.65,150 85.65,-150
  text ".Designator" at 199.95,51.77 h35
Top Component Center:
  circle w1: c-0.05,0 r11.81
  lines w1: -15.8,0 15.7,0 ; -0.05,-15.75 -0.05,15.75
Top Assembly:
  circle w20: c-135.05,-100 r10
  lines w5: -249.25,0 cw(c-0.05,0) 249.15,0 cw(c-0.05,0) -249.25,0 ; -185.65,-150 -85.65,-150 -85.65,150 -185.65,150 -185.65,-150 ; 85.65,-150 185.65,-150 185.65,150 85.65,150 85.65,-150
Mechanical42:
  text "2" at -135.65,-4.27 h16
  text "4" at 135.65,-104.27 h16
  text "1" at -135.65,-104.27 h16
  text "3" at -135.65,95.73 h16
  text "6" at 135.65,95.73 h16
  text "5" at 135.65,-4.27 h16

## DB9_M [mil] "DB9_M"
pads (11):
  rect 70x80 / inner oval 70x80 / far side rect 70x80 hole 38: 1(218,-155)
  oval 70x80 hole 38: 2(109,-155) 3(0,-155) 4(-109,-155) 5(-218,-155) 6(164,-45) 7(55,-45) 8(-54,-45) 9(-163,-45)
  oval 180x90 hole 50 slot 140 at 0 deg: 10(-493,-100) 11(493,-100)
Top Overlay:
  lines w6: -618,-255 -618,255 618,255 618,-255 -618,-255
Top 3D Body:
  region: -620,-255 620,-255 620,255 -620,255
Top Component Center:
  circle w1: c0,-155 r11.81
  lines w1: -15.75,-155 15.75,-155 ; 0,-170.75 0,-139.25
Top Assembly:
  lines w1: -620,-255 -620,255 620,255 620,-255 -620,-255
  text ".Designator" at -58,-120 h40
Mechanical42:
  text "11" at 480.2,-100 h16
  text "6" at 157.6,-45 h16
  text "3" at -6.4,-155 h16
  text "10" at -505.8,-100 h16
  text "1" at 211.6,-155 h16
  text "8" at -60.4,-45 h16
  text "4" at -115.4,-155 h16
  text "2" at 102.6,-155 h16
  text "5" at -224.4,-155 h16
  text "7" at 48.6,-45 h16
  text "9" at -169.4,-45 h16
3D body: height 150, standoff 0, extent -620,-255 620,255

## DFN6_0R95_3X3 [mil] "DFN6_0R95_3X3"
pads (7):
  rect 18x28 smd: 1(-37.4,-56.52) 2(0,-56.52) 3(37.4,-56.52) 4(37.4,56.52) 5(0,56.52) 6(-37.4,56.52)
  rect 99x69 smd: 7(0,0)
Top Overlay:
  lines w5: -66.5,-67 -66.5,-72 -60.5,-68 -69.5,-62 -69.5,-73 -72.5,-75 -72.5,-60 -76.5,-58 -76.5,-78 -80.5,-78 -80.5,-83 ; -80.5,-83 -55.5,-68 -80.5,-53 -80.5,-83
  lines w6: -60,-50 -60,60 ; 60,-60 60,60
Top Courtyard:
  dashed: 59.06,-71.61 59.06,71.61 -59.05,71.61 -59.05,-71.61
Top 3D Body:
  region: 59.06,-71.61 59.06,71.61 -59.05,71.61 -59.05,-71.61
Top Component Center:
  circle w1: c0,0 r11.81
  lines w1: -15.75,0 15.75,0 ; 0,-15.75 0,15.75
Top Assembly:
  dashed: -60,20 -60,-60 20,-60
  lines w5: -59.06,-59.06 59.06,-59.06 59.06,59.06 -59.06,59.06 -59.06,-59.06
  text ".Designator" at -36,-10 h30
  text "ST1L05BPUR" at -95,-175 h30
Mechanical42:
  text "6" at -43.8,56.52 h16
  text "2" at -6.4,-56.52 h16
  text "7" at -6.4,0 h16
  text "3" at 31,-56.52 h16
  text "4" at 31,56.52 h16
  text "5" at -6.4,56.52 h16
  text "1" at -43.8,-56.52 h16
Mechanical44:
  lines w5: -156,322 304,322
  text "Sofer Lib Information" at -156,332 h25
  text "Ref PN: ST ST1S06XX" at -126,282 h25
  text "Creat : Yuki" at -126,242 h25
  text "Date  : 2011-02-15" at -126,202 h25
  text "Rev   : A1" at -126,162 h25
  text "Remark: D043-012B" at -126,122 h25
Mechanical45:
  text "DFN6_0R95_3X3" at -126,-175 h30
Mechanical48:
  lines w1: -59.06,-59.06 59.06,-59.06 59.06,59.05 -59.06,59.05 -59.06,-59.06
Mechanical49:
  text "OK" at -28,0 h35
3D body: height 150, standoff 0, extent -59.05,-71.61 59.06,71.61

## FBGA64_1_11X13 [mil] "FBGA64_1_11X13"
pads (64):
  round 18 smd: A1(-137.8,137.8) A2(-98.43,137.8) A3(-59.06,137.8) A4(-19.69,137.8) A5(19.69,137.8) A6(59.06,137.8) A7(98.43,137.8) A8(137.8,137.8) B1(-137.8,98.43) B2(-98.43,98.43) B3(-59.06,98.43) B4(-19.69,98.43) B5(19.69,98.43) B6(59.06,98.43) B7(98.43,98.43) B8(137.8,98.43) C1(-137.8,59.06) C2(-98.43,59.06) C3(-59.06,59.06) C4(-19.69,59.06) C5(19.69,59.06) C6(59.06,59.06) C7(98.43,59.06) C8(137.8,59.06) D1(-137.8,19.69) D2(-98.43,19.69) D3(-59.06,19.69) D4(-19.69,19.69) D5(19.69,19.69) D6(59.06,19.69) D7(98.43,19.69) D8(137.8,19.69) E1(-137.8,-19.69) E2(-98.43,-19.69) E3(-59.06,-19.69) E4(-19.69,-19.69) E5(19.69,-19.69) E6(59.06,-19.69) E7(98.43,-19.69) E8(137.8,-19.69) F1(-137.8,-59.06) F2(-98.43,-59.06) F3(-59.06,-59.06) F4(-19.69,-59.06) F5(19.69,-59.06) F6(59.06,-59.06) F7(98.43,-59.06) F8(137.8,-59.06) G1(-137.8,-98.43) G2(-98.43,-98.43) G3(-59.06,-98.43) G4(-19.69,-98.43) G5(19.69,-98.43) G6(59.06,-98.43) G7(98.43,-98.43) G8(137.8,-98.43) H1(-137.8,-137.8) H2(-98.43,-137.8) H3(-59.06,-137.8) H4(-19.69,-137.8) H5(19.69,-137.8) H6(59.06,-137.8) H7(98.43,-137.8) H8(137.8,-137.8)
Top Overlay:
  dashed: -234,186 -234,276 -144,276 -144,258 -216,258 -216,186
  lines w1: -295.28,-334.65 -295.28,334.65 295.28,334.65 295.28,-334.65 -295.28,-334.65
  lines w6: -216.54,-255.91 -216.54,255.91 216.54,255.91 216.54,-255.91 -216.54,-255.91
  text "8" at 138,276 h25
  text "1" at -144,276 h25
  text "H" at -246,-144 h25
  text "A" at -246,126 h25
  text ".Designator" at 355,-67 h35
Top Courtyard:
  dashed: -216,-255.91 216,-255.91 216,255.91 -216,255.91
Top 3D Body:
  region: -216,-255.91 216,-255.91 216,255.91 -216,255.91
Top Component Center:
  circle w1: c0,0 r11.81
  lines w1: -15.75,0 15.75,0 ; 0,-15.75 0,15.75
Top Assembly:
  dashed: -6,258 -216,48 -216,258
  lines w5: -216.54,-255.91 -216.54,255.91 216.54,255.91 216.54,-255.91 -216.54,-255.91
  text "PC28F128M29EWLA" at -48,-612 h30
Mechanical42:
  text "D7" at 98.43,6.89 h16
  text "C7" at 98.43,46.26 h16
  text "A7" at 98.43,125 h16
  text "B7" at 98.43,85.63 h16
  text "D6" at 59.06,6.89 h16
  text "C3" at -59.06,46.26 h16
  text "D3" at -59.06,6.89 h16
  text "B2" at -98.43,85.63 h16
  text "A2" at -98.43,125 h16
  text "C2" at -98.43,46.26 h16
  text "D2" at -98.43,6.89 h16
  text "E2" at -98.43,-32.49 h16
  text "G7" at 98.43,-111.23 h16
  text "F6" at 59.06,-71.86 h16
  text "G6" at 59.06,-111.23 h16
  text "F5" at 19.69,-71.86 h16
  text "G4" at -19.69,-111.23 h16
  text "F4" at -19.69,-71.86 h16
  text "G3" at -59.06,-111.23 h16
  text "F3" at -59.06,-71.86 h16
  text "E6" at 59.06,-32.49 h16
  text "H6" at 59.06,-150.6 h16
  text "H4" at -19.69,-150.6 h16
  text "E4" at -19.69,-32.49 h16
  text "H3" at -59.06,-150.6 h16
  text "E3" at -59.06,-32.49 h16
  text "G2" at -98.43,-111.23 h16
  text "H2" at -98.43,-150.6 h16
  text "E8" at 137.8,-32.49 h16
  text "H7" at 98.43,-150.6 h16
  text "F1" at -137.8,-71.86 h16
  text "D8" at 137.8,6.89 h16
  text "G5" at 19.69,-111.23 h16
  text "F7" at 98.43,-71.86 h16
  text "A8" at 137.8,125 h16
  text "F8" at 137.8,-71.86 h16
  text "G8" at 137.8,-111.23 h16
  text "H8" at 137.8,-150.6 h16
  text "A1" at -137.8,125 h16
  text "B1" at -137.8,85.63 h16
  text "C1" at -137.8,46.26 h16
  text "D1" at -137.8,6.89 h16
  text "E1" at -137.8,-32.49 h16
  text "G1" at -137.8,-111.23 h16
  text "H1" at -137.8,-150.6 h16
  text "A4" at -19.69,125 h16
  text "B5" at 19.69,85.63 h16
  text "B4" at -19.69,85.63 h16
  text "F2" at -98.43,-71.86 h16
  text "A5" at 19.69,125 h16
  text "C6" at 59.06,46.26 h16
  text "A6" at 59.06,125 h16
  text "B6" at 59.06,85.63 h16
  text "A3" at -59.06,125 h16
  text "E5" at 19.69,-32.49 h16
  text "H5" at 19.69,-150.6 h16
  text "B8" at 137.8,85.63 h16
  text "C5" at 19.69,46.26 h16
  text "D4" at -19.69,6.89 h16
  text "D5" at 19.69,6.89 h16
  text "C8" at 137.8,46.26 h16
  text "C4" at -19.69,46.26 h16
  text "B3" at -59.06,85.63 h16
  text "E7" at 98.43,-32.49 h16
Mechanical44:
  lines w5: -235,608 225,608
  text "Remark: D804-029A2" at -205,408 h25
  text "Rev   : A1" at -205,448 h25
  text "Date  : 2014-01-08" at -205,488 h25
  text "Creat : Yuki" at -205,528 h25
  text "Ref PN: M29W128G" at -205,568 h25
  text "Sofer Lib Information" at -235,618 h25
Mechanical45:
  text "FBGA64_1_11X13" at -54,-588 h30
Mechanical49:
  text "OK" at 0,-28 h35
3D body: height 150, standoff 0, extent -216,-255.91 216,255.91